# Altium footprint library STM32F413Nucleo_NT35510__PCBlib.PcbLib: 11 footprints
Each footprint in its own frame and in the unit in brackets; x right, y up, seen from the top. Pads: shape width x height; smd on the part's side, far side on the other; paste and mask are expansions set on the pad; w line width, h text height; cw(c..) or ccw(c..) is an arc to the next point about the centre after c.
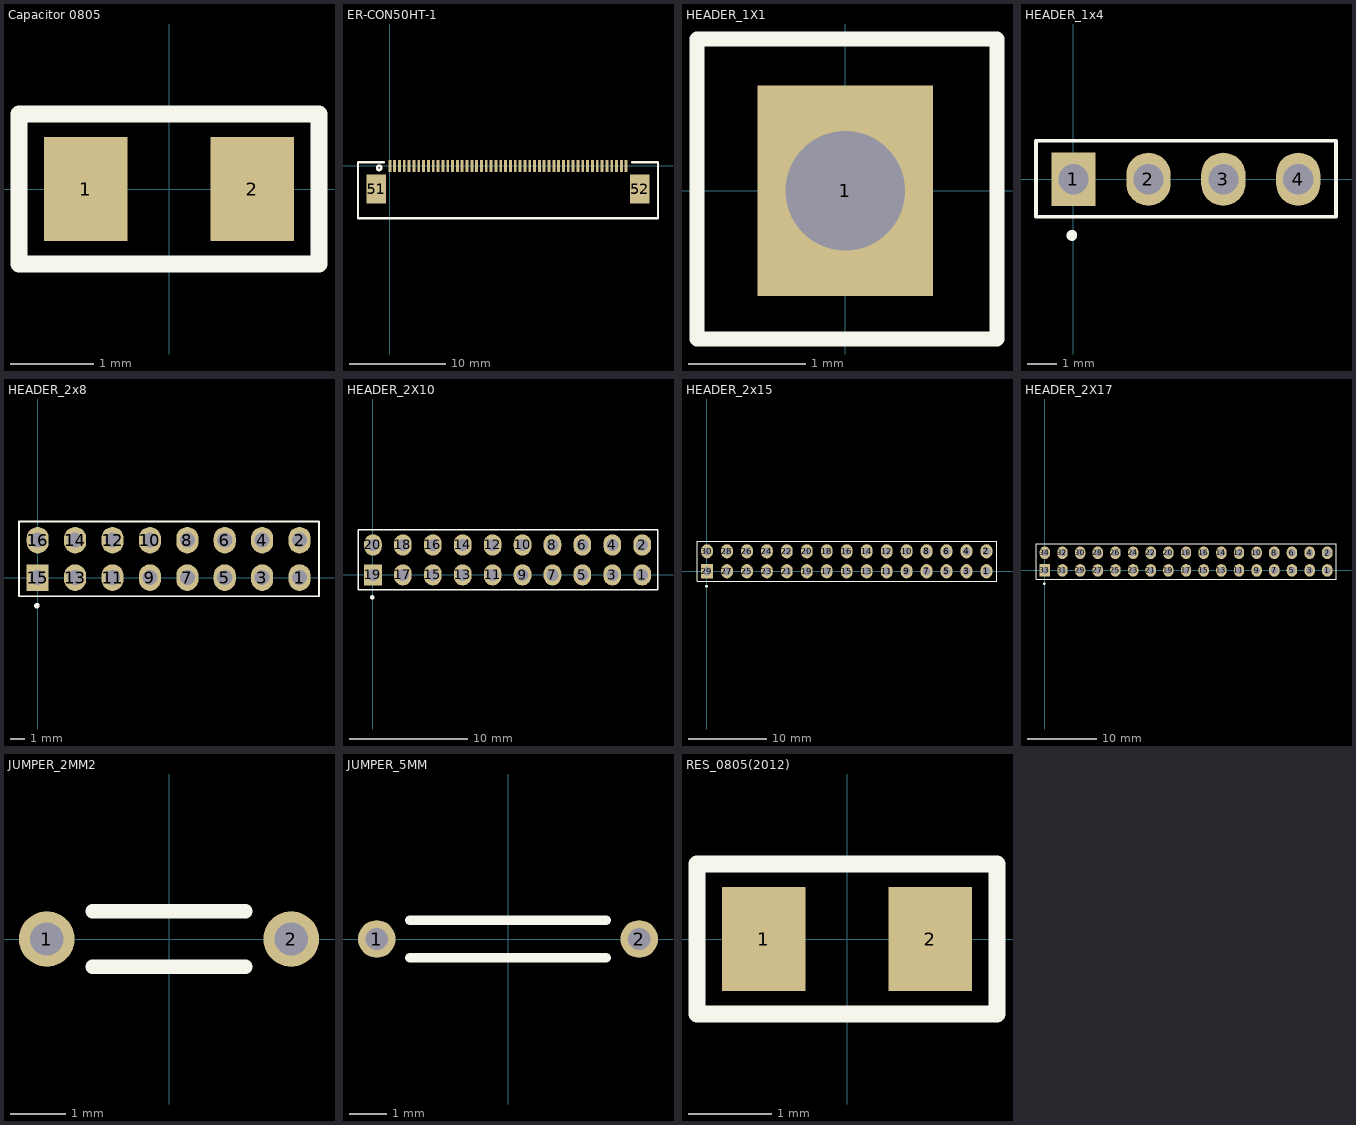
[diagram p0: the footprints below, top view; thin cyan lines are the x and y axes]

## Capacitor 0805 [mm]
pads (2):
  rect 1x1.25 smd: 1(-1,0) 2(1,0)
Top Overlay:
  lines w0.2: -1.8,-0.9 1.8,-0.9 1.8,0.9 -1.8,0.9 -1.8,-0.9
3D body "GCJ21BR71H683KA01L--3DModel-STEP-56544.STEP": height 1.46, standoff 0.01, extent -1,-0.625 1,0.625

## ER-CON50HT-1 [mm] "SMD FPC Connector, Pitch 0.5mm, Top Contact 50 P"
height 2.3
pads (52):
  rect 0.3x1.25 smd: 1(0,0) 2(0.5,0) 3(1,0) 4(1.5,0) 5(2,0) 6(2.5,0) 7(3,0) 8(3.5,0) 9(4,0) 10(4.5,0) 11(5,0) 12(5.5,0) 13(6,0) 14(6.5,0) 15(7,0) 16(7.5,0) 17(8,0) 18(8.5,0) 19(9,0) 20(9.5,0) 21(10,0) 22(10.5,0) 23(11,0) 24(11.5,0) 25(12,0) 26(12.5,0) 27(13,0) 28(13.5,0) 29(14,0) 30(14.5,0) 31(15,0) 32(15.5,0) 33(16,0) 34(16.5,0) 35(17,0) 36(17.5,0) 37(18,0) 38(18.5,0) 39(19,0) 40(19.5,0) 41(20,0) 42(20.5,0) 43(21,0) 44(21.5,0) 45(22,0) 46(22.5,0) 47(23,0) 48(23.5,0) 49(24,0) 50(24.5,0)
  rect 2x3 smd: 51(-1.4,-2.4) 52(25.9,-2.4)
Top Overlay:
  circle w0.254: c-1.1,-0.2 r0.224
  lines w0.254: -0.625,0.4 -3.3,0.4 -3.3,-5.4 27.8,-5.4 27.8,0.4 25.125,0.4
3D body "ER-CON50HT-1--3DModel-STEP-56544.STEP": height 2.05, standoff 0, extent -3.075,-5.25 27.575,0.25

## HEADER_1X1 [mm] "Male Header, Pitch 2.54mm, 1x1 Position"
height 6
pads (1):
  rect 1.5x1.8 hole 1.02: 1(0,0)
Top Overlay:
  lines w0.127: -1.27,-1.27 1.3,-1.27 1.3,1.3 -1.27,1.3 -1.27,-1.27
3D body: height 2.54, standoff 0, extent -1.27,-1.27 1.27,1.27
3D body: height 9, standoff -2.54, extent -0.349,-0.347 0.349,0.35

## HEADER_1x4 [mm] "Male Header, Pitch 2.54mm, 1x4 P"
height 6
pads (4):
  rect 1.5x1.8 hole 1.02: 1(0,0)
  oval 1.5x1.8 hole 1.02: 2(2.54,0) 3(5.08,0) 4(7.62,0)
Top Overlay:
  circle w0.25: c-0.059,-1.905 r0.059
  lines w0.127: -1.27,-1.27 8.9,-1.27 8.9,1.3 -1.27,1.3 -1.27,-1.27
3D body: height 2.54, standoff 0, extent 1.27,-1.27 3.81,1.27
3D body: height 9, standoff -2.54, extent 2.19,-0.349 2.887,0.349
3D body: height 2.54, standoff 0, extent 3.81,-1.27 6.35,1.27
3D body: height 9, standoff -2.54, extent 4.73,-0.349 5.427,0.349
3D body: height 9, standoff -2.54, extent 7.27,-0.349 7.967,0.349
3D body: height 2.54, standoff 0, extent 6.35,-1.27 8.89,1.27
3D body: height 2.54, standoff 0, extent -1.27,-1.27 1.27,1.27
3D body: height 9, standoff -2.54, extent -0.349,-0.347 0.349,0.35

## HEADER_2x8 [mm] "Male Header, Pitch 2.54mm, 2x8 P"
height 6
pads (16):
  oval 1.5x1.8 hole 1.02: 1(17.78,0) 2(17.78,2.54) 3(15.24,0) 4(15.24,2.54) 5(12.7,0) 6(12.7,2.54) 7(10.16,0) 8(10.16,2.54) 9(7.62,0) 10(7.62,2.54) 11(5.08,0) 12(5.08,2.54) 13(2.54,0) 14(2.54,2.54) 16(0,2.54)
  rect 1.5x1.8 hole 1.02: 15(0,0)
Top Overlay:
  circle w0.25: c-0.059,-1.905 r0.059
  lines w0.127: -1.27,-1.27 19.1,-1.27 19.1,3.81 -1.27,3.81 -1.27,-1.27
3D body: height 2.54, standoff 0, extent 1.27,-1.27 3.81,1.27
3D body: height 9, standoff -2.54, extent 2.19,-0.349 2.887,0.349
3D body: height 2.54, standoff 0, extent 3.81,-1.27 6.35,1.27
3D body: height 9, standoff -2.54, extent 4.73,-0.349 5.427,0.349
3D body: height 9, standoff -2.54, extent 7.27,-0.349 7.967,0.349
3D body: height 2.54, standoff 0, extent 6.35,-1.27 8.89,1.27
3D body: height 9, standoff -2.54, extent 9.81,-0.349 10.507,0.349
3D body: height 2.54, standoff 0, extent 8.89,-1.27 11.43,1.27
3D body: height 9, standoff -2.54, extent 12.35,-0.349 13.047,0.349
3D body: height 2.54, standoff 0, extent 11.43,-1.27 13.97,1.27
3D body: height 9, standoff -2.54, extent 17.43,-0.349 18.127,0.349
3D body: height 2.54, standoff 0, extent 16.51,-1.27 19.05,1.27
3D body: height 9, standoff -2.54, extent 14.89,-0.349 15.587,0.349
3D body: height 2.54, standoff 0, extent 13.97,-1.27 16.51,1.27
3D body: height 2.54, standoff 0, extent -1.27,-1.27 1.27,1.27
3D body: height 9, standoff -2.54, extent -0.349,-0.347 0.349,0.35
3D body: height 2.54, standoff 0, extent 13.97,1.27 16.51,3.81
3D body: height 9, standoff -2.54, extent 14.89,2.191 15.587,2.889
3D body: height 2.54, standoff 0, extent 16.51,1.27 19.05,3.81
3D body: height 9, standoff -2.54, extent 17.43,2.191 18.127,2.889
3D body: height 2.54, standoff 0, extent 11.43,1.27 13.97,3.81
3D body: height 9, standoff -2.54, extent 12.35,2.191 13.047,2.889
3D body: height 2.54, standoff 0, extent 8.89,1.27 11.43,3.81
3D body: height 9, standoff -2.54, extent 9.81,2.191 10.507,2.889
3D body: height 2.54, standoff 0, extent 6.35,1.27 8.89,3.81
3D body: height 9, standoff -2.54, extent 7.27,2.191 7.967,2.889
3D body: height 9, standoff -2.54, extent 4.73,2.191 5.427,2.889
3D body: height 2.54, standoff 0, extent 3.81,1.27 6.35,3.81
3D body: height 9, standoff -2.54, extent 2.19,2.191 2.887,2.889
3D body: height 2.54, standoff 0, extent 1.27,1.27 3.81,3.81
3D body: height 9, standoff -2.54, extent -0.35,2.191 0.347,2.889
3D body: height 2.54, standoff 0, extent -1.27,1.27 1.27,3.81

## HEADER_2X10 [mm] "Male Header, Pitch 2.54mm, 2x10 Position"
height 6
pads (20):
  oval 1.5x1.8 hole 1.02: 1(22.86,0) 2(22.86,2.54) 3(20.32,0) 4(20.32,2.54) 5(17.78,0) 6(17.78,2.54) 7(15.24,0) 8(15.24,2.54) 9(12.7,0) 10(12.7,2.54) 11(10.16,0) 12(10.16,2.54) 13(7.62,0) 14(7.62,2.54) 15(5.08,0) 16(5.08,2.54) 17(2.54,0) 18(2.54,2.54) 20(0,2.54)
  rect 1.5x1.8 hole 1.02: 19(0,0)
Top Overlay:
  circle w0.25: c-0.059,-1.905 r0.059
  lines w0.127: -1.27,-1.27 -1.27,3.81 24.2,3.81 24.2,-1.27 -1.27,-1.27
3D body: height 2.54, standoff 0, extent -1.27,1.27 1.27,3.81
3D body: height 9, standoff -2.54, extent -0.35,2.191 0.347,2.889
3D body: height 2.54, standoff 0, extent 1.27,1.27 3.81,3.81
3D body: height 9, standoff -2.54, extent 2.19,2.191 2.887,2.889
3D body: height 2.54, standoff 0, extent 3.81,1.27 6.35,3.81
3D body: height 9, standoff -2.54, extent 4.73,2.191 5.427,2.889
3D body: height 9, standoff -2.54, extent 7.27,2.191 7.967,2.889
3D body: height 2.54, standoff 0, extent 6.35,1.27 8.89,3.81
3D body: height 9, standoff -2.54, extent 9.81,2.191 10.507,2.889
3D body: height 2.54, standoff 0, extent 8.89,1.27 11.43,3.81
3D body: height 9, standoff -2.54, extent 12.35,2.191 13.047,2.889
3D body: height 2.54, standoff 0, extent 11.43,1.27 13.97,3.81
3D body: height 2.54, standoff 0, extent 21.59,1.27 24.13,3.81
3D body: height 9, standoff -2.54, extent 22.51,2.191 23.207,2.889
3D body: height 2.54, standoff 0, extent 19.05,1.27 21.59,3.81
3D body: height 9, standoff -2.54, extent 19.97,2.191 20.667,2.889
3D body: height 9, standoff -2.54, extent 17.43,2.191 18.127,2.889
3D body: height 2.54, standoff 0, extent 16.51,1.27 19.05,3.81
3D body: height 9, standoff -2.54, extent 14.89,2.191 15.587,2.889
3D body: height 2.54, standoff 0, extent 13.97,1.27 16.51,3.81
3D body: height 9, standoff -2.54, extent -0.349,-0.347 0.349,0.35
3D body: height 2.54, standoff 0, extent -1.27,-1.27 1.27,1.27
3D body: height 2.54, standoff 0, extent 13.97,-1.27 16.51,1.27
3D body: height 9, standoff -2.54, extent 14.89,-0.349 15.587,0.349
3D body: height 2.54, standoff 0, extent 16.51,-1.27 19.05,1.27
3D body: height 9, standoff -2.54, extent 17.43,-0.349 18.127,0.349
3D body: height 9, standoff -2.54, extent 19.97,-0.349 20.667,0.349
3D body: height 2.54, standoff 0, extent 19.05,-1.27 21.59,1.27
3D body: height 9, standoff -2.54, extent 22.51,-0.349 23.207,0.349
3D body: height 2.54, standoff 0, extent 21.59,-1.27 24.13,1.27
3D body: height 2.54, standoff 0, extent 11.43,-1.27 13.97,1.27
3D body: height 9, standoff -2.54, extent 12.35,-0.349 13.047,0.349
3D body: height 2.54, standoff 0, extent 8.89,-1.27 11.43,1.27
3D body: height 9, standoff -2.54, extent 9.81,-0.349 10.507,0.349
3D body: height 2.54, standoff 0, extent 6.35,-1.27 8.89,1.27
3D body: height 9, standoff -2.54, extent 7.27,-0.349 7.967,0.349
3D body: height 9, standoff -2.54, extent 4.73,-0.349 5.427,0.349
3D body: height 2.54, standoff 0, extent 3.81,-1.27 6.35,1.27
3D body: height 9, standoff -2.54, extent 2.19,-0.349 2.887,0.349
3D body: height 2.54, standoff 0, extent 1.27,-1.27 3.81,1.27

## HEADER_2x15 [mm] "Male Header, Pitch 2.54mm, 2x15 P"
height 6
pads (30):
  oval 1.5x1.8 hole 1.02: 1(35.56,0) 2(35.56,2.54) 3(33.02,0) 4(33.02,2.54) 5(30.48,0) 6(30.48,2.54) 7(27.94,0) 8(27.94,2.54) 9(25.4,0) 10(25.4,2.54) 11(22.86,0) 12(22.86,2.54) 13(20.32,0) 14(20.32,2.54) 15(17.78,0) 16(17.78,2.54) 17(15.24,0) 18(15.24,2.54) 19(12.7,0) 20(12.7,2.54) 21(10.16,0) 22(10.16,2.54) 23(7.62,0) 24(7.62,2.54) 25(5.08,0) 26(5.08,2.54) 27(2.54,0) 28(2.54,2.54) 30(0,2.54)
  rect 1.5x1.8 hole 1.02: 29(0,0)
Top Overlay:
  circle w0.25: c-0.059,-1.905 r0.059
  lines w0.127: -1.27,-1.27 36.9,-1.27 36.9,3.81 -1.27,3.81 -1.27,-1.27
3D body: height 2.54, standoff 0, extent 1.27,-1.27 3.81,1.27
3D body: height 9, standoff -2.54, extent 2.19,-0.349 2.887,0.349
3D body: height 2.54, standoff 0, extent 3.81,-1.27 6.35,1.27
3D body: height 9, standoff -2.54, extent 4.73,-0.349 5.427,0.349
3D body: height 9, standoff -2.54, extent 7.27,-0.349 7.967,0.349
3D body: height 2.54, standoff 0, extent 6.35,-1.27 8.89,1.27
3D body: height 9, standoff -2.54, extent 9.81,-0.349 10.507,0.349
3D body: height 2.54, standoff 0, extent 8.89,-1.27 11.43,1.27
3D body: height 9, standoff -2.54, extent 12.35,-0.349 13.047,0.349
3D body: height 2.54, standoff 0, extent 11.43,-1.27 13.97,1.27
3D body: height 2.54, standoff 0, extent 24.13,-1.27 26.67,1.27
3D body: height 9, standoff -2.54, extent 25.05,-0.349 25.747,0.349
3D body: height 2.54, standoff 0, extent 21.59,-1.27 24.13,1.27
3D body: height 9, standoff -2.54, extent 22.51,-0.349 23.207,0.349
3D body: height 2.54, standoff 0, extent 19.05,-1.27 21.59,1.27
3D body: height 9, standoff -2.54, extent 19.97,-0.349 20.667,0.349
3D body: height 9, standoff -2.54, extent 17.43,-0.349 18.127,0.349
3D body: height 2.54, standoff 0, extent 16.51,-1.27 19.05,1.27
3D body: height 9, standoff -2.54, extent 14.89,-0.349 15.587,0.349
3D body: height 2.54, standoff 0, extent 13.97,-1.27 16.51,1.27
3D body: height 2.54, standoff 0, extent 34.29,-1.27 36.83,1.27
3D body: height 9, standoff -2.54, extent 35.21,-0.349 35.907,0.349
3D body: height 2.54, standoff 0, extent 31.75,-1.27 34.29,1.27
3D body: height 9, standoff -2.54, extent 32.67,-0.349 33.367,0.349
3D body: height 9, standoff -2.54, extent 30.13,-0.349 30.827,0.349
3D body: height 2.54, standoff 0, extent 29.21,-1.27 31.75,1.27
3D body: height 9, standoff -2.54, extent 27.59,-0.349 28.287,0.349
3D body: height 2.54, standoff 0, extent 26.67,-1.27 29.21,1.27
3D body: height 2.54, standoff 0, extent -1.27,-1.27 1.27,1.27
3D body: height 9, standoff -2.54, extent -0.349,-0.347 0.349,0.35
3D body: height 2.54, standoff 0, extent 26.67,1.27 29.21,3.81
3D body: height 9, standoff -2.54, extent 27.59,2.191 28.287,2.889
3D body: height 2.54, standoff 0, extent 29.21,1.27 31.75,3.81
3D body: height 9, standoff -2.54, extent 30.13,2.191 30.827,2.889
3D body: height 9, standoff -2.54, extent 32.67,2.191 33.367,2.889
3D body: height 2.54, standoff 0, extent 31.75,1.27 34.29,3.81
3D body: height 9, standoff -2.54, extent 35.21,2.191 35.907,2.889
3D body: height 2.54, standoff 0, extent 34.29,1.27 36.83,3.81
3D body: height 2.54, standoff 0, extent 13.97,1.27 16.51,3.81
3D body: height 9, standoff -2.54, extent 14.89,2.191 15.587,2.889
3D body: height 2.54, standoff 0, extent 16.51,1.27 19.05,3.81
3D body: height 9, standoff -2.54, extent 17.43,2.191 18.127,2.889
3D body: height 9, standoff -2.54, extent 19.97,2.191 20.667,2.889
3D body: height 2.54, standoff 0, extent 19.05,1.27 21.59,3.81
3D body: height 9, standoff -2.54, extent 22.51,2.191 23.207,2.889
3D body: height 2.54, standoff 0, extent 21.59,1.27 24.13,3.81
3D body: height 9, standoff -2.54, extent 25.05,2.191 25.747,2.889
3D body: height 2.54, standoff 0, extent 24.13,1.27 26.67,3.81
3D body: height 2.54, standoff 0, extent 11.43,1.27 13.97,3.81
3D body: height 9, standoff -2.54, extent 12.35,2.191 13.047,2.889
3D body: height 2.54, standoff 0, extent 8.89,1.27 11.43,3.81
3D body: height 9, standoff -2.54, extent 9.81,2.191 10.507,2.889
3D body: height 2.54, standoff 0, extent 6.35,1.27 8.89,3.81
3D body: height 9, standoff -2.54, extent 7.27,2.191 7.967,2.889
3D body: height 9, standoff -2.54, extent 4.73,2.191 5.427,2.889
3D body: height 2.54, standoff 0, extent 3.81,1.27 6.35,3.81
3D body: height 9, standoff -2.54, extent 2.19,2.191 2.887,2.889
3D body: height 2.54, standoff 0, extent 1.27,1.27 3.81,3.81
3D body: height 9, standoff -2.54, extent -0.35,2.191 0.347,2.889
3D body: height 2.54, standoff 0, extent -1.27,1.27 1.27,3.81

## HEADER_2X17 [mm] "Male Header, Pitch 2.54mm, 2x17 Position"
height 6
pads (34):
  oval 1.5x1.8 hole 1.02: 1(40.64,0) 2(40.64,2.54) 3(38.1,0) 4(38.1,2.54) 5(35.56,0) 6(35.56,2.54) 7(33.02,0) 8(33.02,2.54) 9(30.48,0) 10(30.48,2.54) 11(27.94,0) 12(27.94,2.54) 13(25.4,0) 14(25.4,2.54) 15(22.86,0) 16(22.86,2.54) 17(20.32,0) 18(20.32,2.54) 19(17.78,0) 20(17.78,2.54) 21(15.24,0) 22(15.24,2.54) 23(12.7,0) 24(12.7,2.54) 25(10.16,0) 26(10.16,2.54) 27(7.62,0) 28(7.62,2.54) 29(5.08,0) 30(5.08,2.54) 31(2.54,0) 32(2.54,2.54) 34(0,2.54)
  rect 1.5x1.8 hole 1.02: 33(0,0)
Top Overlay:
  circle w0.25: c-0.059,-1.905 r0.059
  lines w0.127: -1.27,-1.27 41.9,-1.27 41.9,3.81 -1.27,3.81 -1.27,-1.27
3D body: height 2.54, standoff 0, extent 1.27,-1.27 3.81,1.27
3D body: height 9, standoff -2.54, extent 2.19,-0.349 2.887,0.349
3D body: height 2.54, standoff 0, extent 3.81,-1.27 6.35,1.27
3D body: height 9, standoff -2.54, extent 4.73,-0.349 5.427,0.349
3D body: height 9, standoff -2.54, extent 7.27,-0.349 7.967,0.349
3D body: height 2.54, standoff 0, extent 6.35,-1.27 8.89,1.27
3D body: height 9, standoff -2.54, extent 9.81,-0.349 10.507,0.349
3D body: height 2.54, standoff 0, extent 8.89,-1.27 11.43,1.27
3D body: height 9, standoff -2.54, extent 12.35,-0.349 13.047,0.349
3D body: height 2.54, standoff 0, extent 11.43,-1.27 13.97,1.27
3D body: height 2.54, standoff 0, extent 24.13,-1.27 26.67,1.27
3D body: height 9, standoff -2.54, extent 25.05,-0.349 25.747,0.349
3D body: height 2.54, standoff 0, extent 21.59,-1.27 24.13,1.27
3D body: height 9, standoff -2.54, extent 22.51,-0.349 23.207,0.349
3D body: height 2.54, standoff 0, extent 19.05,-1.27 21.59,1.27
3D body: height 9, standoff -2.54, extent 19.97,-0.349 20.667,0.349
3D body: height 9, standoff -2.54, extent 17.43,-0.349 18.127,0.349
3D body: height 2.54, standoff 0, extent 16.51,-1.27 19.05,1.27
3D body: height 9, standoff -2.54, extent 14.89,-0.349 15.587,0.349
3D body: height 2.54, standoff 0, extent 13.97,-1.27 16.51,1.27
3D body: height 2.54, standoff 0, extent 36.83,-1.27 39.37,1.27
3D body: height 9, standoff -2.54, extent 37.75,-0.349 38.447,0.349
3D body: height 2.54, standoff 0, extent 34.29,-1.27 36.83,1.27
3D body: height 9, standoff -2.54, extent 35.21,-0.349 35.907,0.349
3D body: height 2.54, standoff 0, extent 31.75,-1.27 34.29,1.27
3D body: height 9, standoff -2.54, extent 32.67,-0.349 33.367,0.349
3D body: height 9, standoff -2.54, extent 30.13,-0.349 30.827,0.349
3D body: height 2.54, standoff 0, extent 29.21,-1.27 31.75,1.27
3D body: height 9, standoff -2.54, extent 27.59,-0.349 28.287,0.349
3D body: height 2.54, standoff 0, extent 26.67,-1.27 29.21,1.27
3D body: height 9, standoff -2.54, extent 40.29,-0.349 40.987,0.349
3D body: height 2.54, standoff 0, extent 39.37,-1.27 41.91,1.27
3D body: height 2.54, standoff 0, extent -1.27,-1.27 1.27,1.27
3D body: height 9, standoff -2.54, extent -0.349,-0.347 0.349,0.35
3D body: height 2.54, standoff 0, extent 39.37,1.27 41.91,3.81
3D body: height 9, standoff -2.54, extent 40.29,2.191 40.987,2.889
3D body: height 2.54, standoff 0, extent 26.67,1.27 29.21,3.81
3D body: height 9, standoff -2.54, extent 27.59,2.191 28.287,2.889
3D body: height 2.54, standoff 0, extent 29.21,1.27 31.75,3.81
3D body: height 9, standoff -2.54, extent 30.13,2.191 30.827,2.889
3D body: height 9, standoff -2.54, extent 32.67,2.191 33.367,2.889
3D body: height 2.54, standoff 0, extent 31.75,1.27 34.29,3.81
3D body: height 9, standoff -2.54, extent 35.21,2.191 35.907,2.889
3D body: height 2.54, standoff 0, extent 34.29,1.27 36.83,3.81
3D body: height 9, standoff -2.54, extent 37.75,2.191 38.447,2.889
3D body: height 2.54, standoff 0, extent 36.83,1.27 39.37,3.81
3D body: height 2.54, standoff 0, extent 13.97,1.27 16.51,3.81
3D body: height 9, standoff -2.54, extent 14.89,2.191 15.587,2.889
3D body: height 2.54, standoff 0, extent 16.51,1.27 19.05,3.81
3D body: height 9, standoff -2.54, extent 17.43,2.191 18.127,2.889
3D body: height 9, standoff -2.54, extent 19.97,2.191 20.667,2.889
3D body: height 2.54, standoff 0, extent 19.05,1.27 21.59,3.81
3D body: height 9, standoff -2.54, extent 22.51,2.191 23.207,2.889
3D body: height 2.54, standoff 0, extent 21.59,1.27 24.13,3.81
3D body: height 9, standoff -2.54, extent 25.05,2.191 25.747,2.889
3D body: height 2.54, standoff 0, extent 24.13,1.27 26.67,3.81
3D body: height 2.54, standoff 0, extent 11.43,1.27 13.97,3.81
3D body: height 9, standoff -2.54, extent 12.35,2.191 13.047,2.889
3D body: height 2.54, standoff 0, extent 8.89,1.27 11.43,3.81
3D body: height 9, standoff -2.54, extent 9.81,2.191 10.507,2.889
3D body: height 2.54, standoff 0, extent 6.35,1.27 8.89,3.81
3D body: height 9, standoff -2.54, extent 7.27,2.191 7.967,2.889
3D body: height 9, standoff -2.54, extent 4.73,2.191 5.427,2.889
3D body: height 2.54, standoff 0, extent 3.81,1.27 6.35,3.81
3D body: height 9, standoff -2.54, extent 2.19,2.191 2.887,2.889
3D body: height 2.54, standoff 0, extent 1.27,1.27 3.81,3.81
3D body: height 9, standoff -2.54, extent -0.35,2.191 0.347,2.889
3D body: height 2.54, standoff 0, extent -1.27,1.27 1.27,3.81

## JUMPER_2MM2 [mm]
pads (2):
  round 1 hole 0.6: 1(-2.2,0) 2(2.2,0)
Top Overlay:
  lines w0.254: -1.375,-0.5 1.375,-0.5 ; -1.375,0.5 1.375,0.5
3D body: height 0.8, standoff 0.2, extent -2.2,-0.3 2.2,0.3
3D body: height 0.8, standoff -2, extent -2.5,-0.3 -1.9,0.3
3D body: height 0.8, standoff -2, extent 1.9,-0.3 2.5,0.3

## JUMPER_5MM [mm] "5mm"
height 4
pads (2):
  round 1 hole 0.6: 1(-3.5,0) 2(3.5,0)
Top Overlay:
  lines w0.254: -2.625,-0.5 2.625,-0.5 ; -2.625,0.5 2.625,0.5
3D body: height 0.8, standoff -2, extent 3.2,-0.3 3.8,0.3
3D body: height 0.8, standoff -2, extent -3.8,-0.3 -3.2,0.3
3D body: height 0.8, standoff 0.2, extent -3.5,-0.3 3.5,0.298

## RES_0805(2012) [mm]
pads (2):
  rect 1x1.25 smd: 1(-1,0) 2(1,0)
Top Overlay:
  lines w0.2: -1.8,-0.9 -1.8,0.9 1.8,0.9 1.8,-0.9 -1.8,-0.9
3D body "User Library-res0805-1.STEP": height 0.5, standoff 0, extent -1,-0.625 1,0.625